# Altium schematic symbol library SCH - AMP - TI  TAS5760MDAPR.Schlib: 1 symbol
Pins are listed as number, name and electrical type; pins without a type are passive.

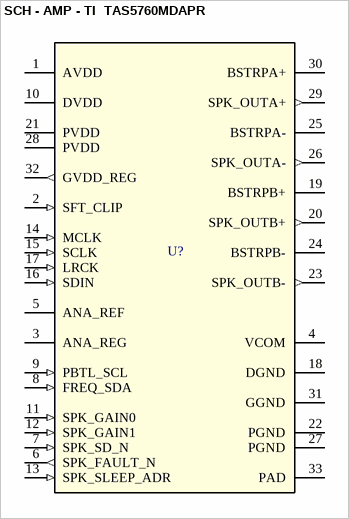
[diagram p0: symbol SCH - AMP - TI  TAS5760MDAPR]

## SCH - AMP - TI  TAS5760MDAPR
designator U?
footprint DAP0032A_N
pins: 1 AVDD (power), 2 SFT_CLIP (in), 3 ANA_REG, 4 VCOM (power), 5 ANA_REF (power), 6 SPK_FAULT_N (out), 7 SPK_SD_N (in), 8 FREQ_SDA (in), 9 PBTL_SCL (in), 10 DVDD (power), 11 SPK_GAIN0 (in), 12 SPK_GAIN1 (in), 13 SPK_SLEEP_ADR (in), 14 MCLK (in), 15 SCLK (in), 16 SDIN (in), 17 LRCK (in), 18 DGND (power), 19 BSTRPB+ (power), 20 SPK_OUTB+ (out), 21 PVDD (power), 22 PGND (power), 23 SPK_OUTB- (out), 24 BSTRPB- (power), 25 BSTRPA- (power), 26 SPK_OUTA- (out), 27 PGND (power), 28 PVDD (power), 29 SPK_OUTA+ (out), 30 BSTRPA+ (power), 31 GGND (power), 32 GVDD_REG (out), 33 PAD (power)